# Altium footprint library CUI_TBP04R1-500-12BE.PcbLib: 1 footprints
Each footprint in its own frame and in the unit in brackets; x right, y up, seen from the top. Pads: shape width x height; smd on the part's side, far side on the other; paste and mask are expansions set on the pad; w line width, h text height; cw(c..) or ccw(c..) is an arc to the next point about the centre after c.
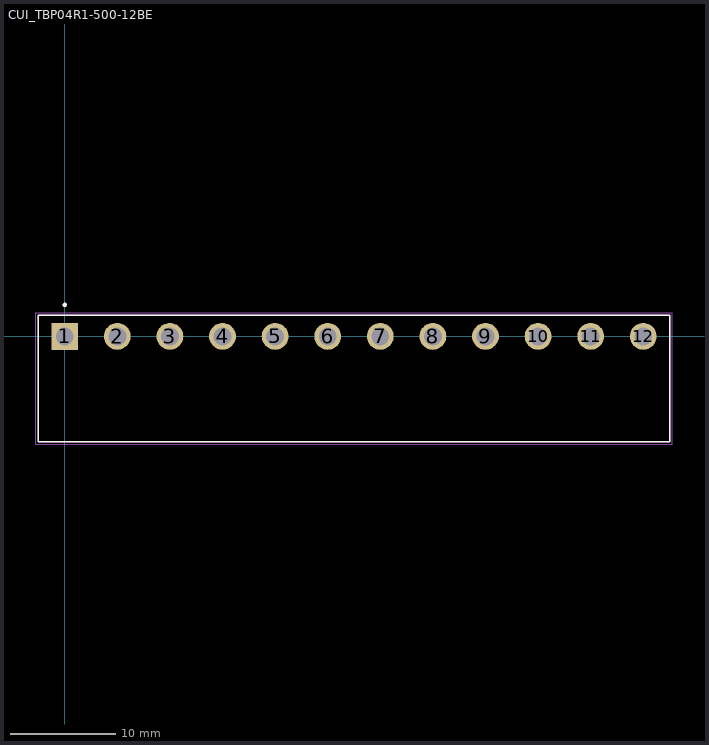
[diagram p0: the footprint, top view; thin cyan lines are the x and y axes]

## CUI_TBP04R1-500-12BE [mm]
height 8.5
pads (12):
  rect 2.55x2.55 / inner round 2.55 / far side rect 2.55x2.55 hole 1.7: 1(0,0)
  round 2.55 hole 1.7: 2(5,0) 3(10,0) 4(15,0) 5(20,0) 6(25,0) 7(30,0) 8(35,0) 9(40,0) 10(45,0) 11(50,0) 12(55,0)
Top Overlay:
  circle w0.2: c0,3 r0.1
  lines w0.127: -2.5,-10 57.5,-10 57.5,2 -2.5,2 -2.5,-10
Assembly Top:
  circle w0.2: c0,3 r0.1
  lines w0.127: -2.5,-10 57.5,-10 57.5,2 -2.5,2 -2.5,-10
Courtyard Top:
  lines w0.05: -2.75,-10.25 57.75,-10.25 57.75,2.25 -2.75,2.25 -2.75,-10.25
3D body "step_temp.STEP": height 8.57, standoff -3.93, extent -2.55,-9.984 57.45,2.016